# EAGLE library part BM10NB(0.8)-40DS-0.4V(51) (library con-hirose-bm10)
RECEPTACAL
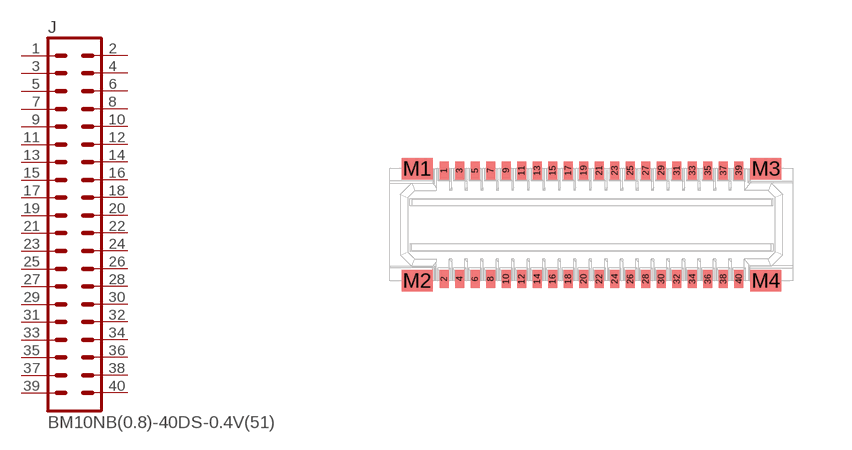
[diagram p1: symbol with the pads of BM10NB(0.8)-40DS-0.4V(51); footprint BM10NB(0.8)-40DS-0.4V(51)]

Designator prefix J

## BM10NB(0.8)-40DS-0.4V(51)  [BM10NB(0.8)-40DS-0.4V(51)]
1  1  pas
2  2  pas
3  3  pas
4  4  pas
5  5  pas
6  6  pas
7  7  pas
8  8  pas
9  9  pas
10  10  pas
11  11  pas
12  12  pas
13  13  pas
14  14  pas
15  15  pas
16  16  pas
17  17  pas
18  18  pas
19  19  pas
20  20  pas
21  21  pas
22  22  pas
23  23  pas
24  24  pas
25  25  pas
26  26  pas
27  27  pas
28  28  pas
29  29  pas
30  30  pas
31  31  pas
32  32  pas
33  33  pas
34  34  pas
35  35  pas
36  36  pas
37  37  pas
38  38  pas
39  39  pas
40  40  pas

## Footprint BM10NB(0.8)-40DS-0.4V(51) (pad centres in mm)
40 Position Connector Receptacle
smd 0.23 x 0.47: 1 -3.8,1.4; 2 -3.8,-1.4; 3 -3.4,1.4; 4 -3.4,-1.4; 5 -3,1.4; 6 -3,-1.4; 7 -2.6,1.4; 8 -2.6,-1.4; 9 -2.2,1.4; 10 -2.2,-1.4; 11 -1.8,1.4; 12 -1.8,-1.4; 13 -1.4,1.4; 14 -1.4,-1.4; 15 -1,1.4; 16 -1,-1.4; 17 -0.6,1.4; 18 -0.6,-1.4; 19 -0.2,1.4; 20 -0.2,-1.4; 21 0.2,1.4; 22 0.2,-1.4; 23 0.6,1.4; 24 0.6,-1.4; 25 1,1.4; 26 1,-1.4; 27 1.4,1.4; 28 1.4,-1.4; 29 1.8,1.4; 30 1.8,-1.4; 31 2.2,1.4; 32 2.2,-1.4; 33 2.6,1.4; 34 2.6,-1.4; 35 3,1.4; 36 3,-1.4; 37 3.4,1.4; 38 3.4,-1.4; 39 3.8,1.4; 40 3.8,-1.4
smd 0.801 x 0.55: M1 -4.495,1.445; M2 -4.495,-1.445; M3 4.495,1.445; M4 4.495,-1.445